# Altium footprint library PCB1.PcbLib: 8 footprints
Each footprint in its own frame and in the unit in brackets; x right, y up, seen from the top. Pads: shape width x height; smd on the part's side, far side on the other; paste and mask are expansions set on the pad; w line width, h text height; cw(c..) or ccw(c..) is an arc to the next point about the centre after c.
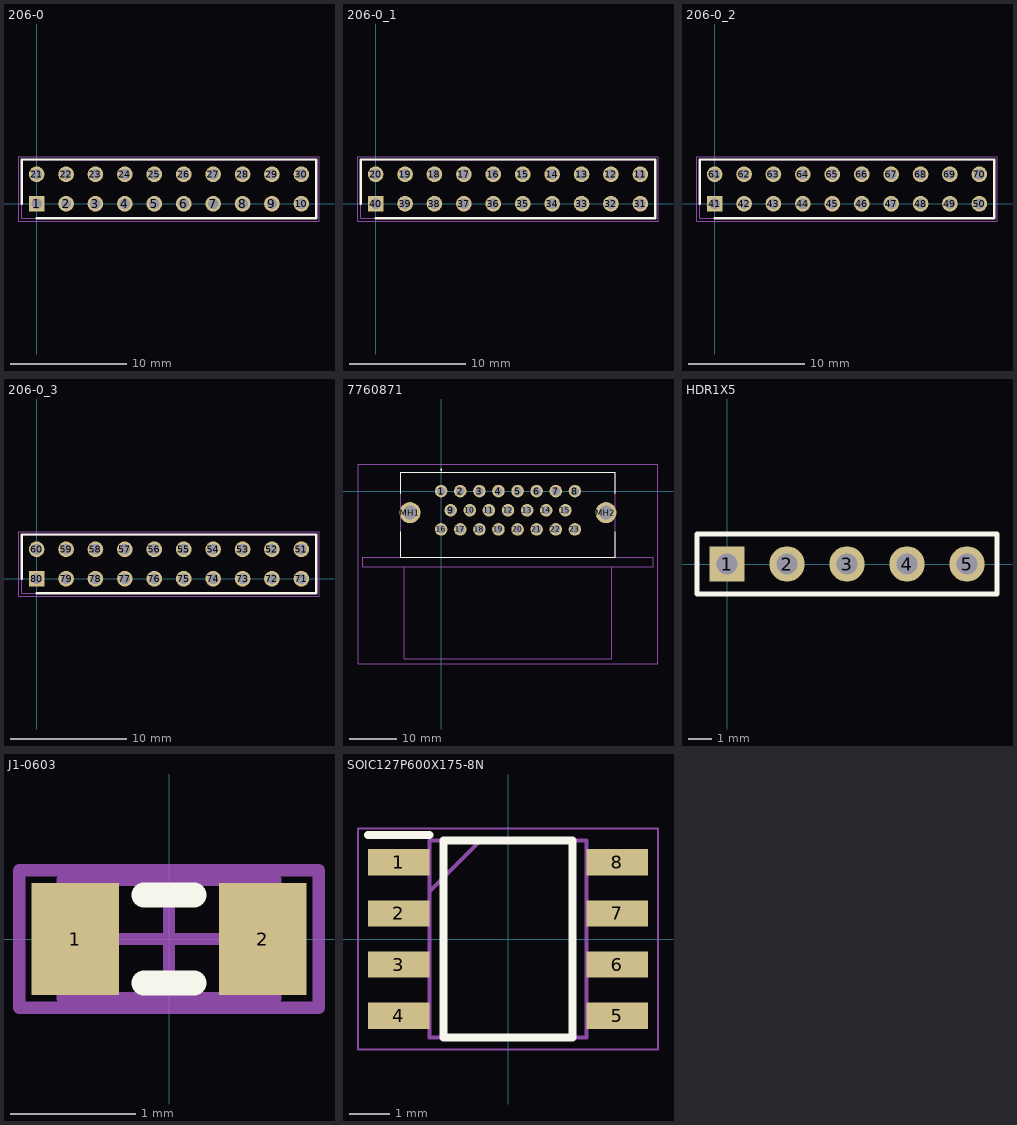
[diagram p0: the footprints below, top view; thin cyan lines are the x and y axes]

## 206-0 [mm]
pads (20):
  rect 1.35x1.35 hole 0.9: 1(0,0)
  round 1.35 hole 0.9: 2(2.54,0) 3(5.08,0) 4(7.62,0) 5(10.16,0) 6(12.7,0) 7(15.24,0) 8(17.78,0) 9(20.32,0) 10(22.86,0) 21(0,2.54) 22(2.54,2.54) 23(5.08,2.54) 24(7.62,2.54) 25(10.16,2.54) 26(12.7,2.54) 27(15.24,2.54) 28(17.78,2.54) 29(20.32,2.54) 30(22.86,2.54)
Top Overlay:
  lines w0.2: -1.27,0 -1.27,3.81 24.13,3.81 24.13,-1.245 0,-1.245
Mechanical 13:
  lines w0.1: -1.27,-1.245 24.13,-1.245 24.13,3.785 -1.27,3.785 -1.27,-1.245
Mechanical 15:
  lines w0.05: -1.52,-1.495 24.38,-1.495 24.38,4.035 -1.52,4.035 -1.52,-1.495
3D body "Pin Header 2x10 TH Pitch 2.54mm.stp": height 9.5, standoff -3.2, extent -1.27,-1.27 24.13,3.81

## 206-0_1 [mm]
pads (20):
  round 1.35 hole 0.9: 11(22.86,2.54) 12(20.32,2.54) 13(17.78,2.54) 14(15.24,2.54) 15(12.7,2.54) 16(10.16,2.54) 17(7.62,2.54) 18(5.08,2.54) 19(2.54,2.54) 20(0,2.54) 31(22.86,0) 32(20.32,0) 33(17.78,0) 34(15.24,0) 35(12.7,0) 36(10.16,0) 37(7.62,0) 38(5.08,0) 39(2.54,0)
  rect 1.35x1.35 hole 0.9: 40(0,0)
Top Overlay:
  lines w0.2: -1.27,0 -1.27,3.81 24.13,3.81 24.13,-1.245 0,-1.245
Mechanical 13:
  lines w0.1: -1.27,-1.245 -1.27,3.785 24.13,3.785 24.13,-1.245 -1.27,-1.245
Mechanical 15:
  lines w0.05: -1.52,-1.495 -1.52,4.035 24.38,4.035 24.38,-1.495 -1.52,-1.495
3D body "Pin Header 2x10 TH Pitch 2.54mm.stp": height 9.5, standoff -3.2, extent -1.27,-1.27 24.13,3.81

## 206-0_2 [mm]
pads (20):
  rect 1.35x1.35 hole 0.9: 41(0,0)
  round 1.35 hole 0.9: 42(2.54,0) 43(5.08,0) 44(7.62,0) 45(10.16,0) 46(12.7,0) 47(15.24,0) 48(17.78,0) 49(20.32,0) 50(22.86,0) 61(0,2.54) 62(2.54,2.54) 63(5.08,2.54) 64(7.62,2.54) 65(10.16,2.54) 66(12.7,2.54) 67(15.24,2.54) 68(17.78,2.54) 69(20.32,2.54) 70(22.86,2.54)
Top Overlay:
  lines w0.2: -1.27,0 -1.27,3.81 24.13,3.81 24.13,-1.245 0,-1.245
Mechanical 13:
  lines w0.1: -1.27,-1.245 -1.27,3.785 24.13,3.785 24.13,-1.245 -1.27,-1.245
Mechanical 15:
  lines w0.05: -1.52,-1.495 -1.52,4.035 24.38,4.035 24.38,-1.495 -1.52,-1.495
3D body "Pin Header 2x10 TH Pitch 2.54mm.stp": height 9.55, standoff -3.15, extent -1.27,-1.27 24.13,3.81

## 206-0_3 [mm]
pads (20):
  round 1.35 hole 0.9: 51(22.86,2.54) 52(20.32,2.54) 53(17.78,2.54) 54(15.24,2.54) 55(12.7,2.54) 56(10.16,2.54) 57(7.62,2.54) 58(5.08,2.54) 59(2.54,2.54) 60(0,2.54) 71(22.86,0) 72(20.32,0) 73(17.78,0) 74(15.24,0) 75(12.7,0) 76(10.16,0) 77(7.62,0) 78(5.08,0) 79(2.54,0)
  rect 1.35x1.35 hole 0.9: 80(0,0)
Top Overlay:
  lines w0.2: -1.27,0 -1.27,3.81 24.13,3.81 24.13,-1.245 0,-1.245
Mechanical 13:
  lines w0.1: -1.27,-1.245 24.13,-1.245 24.13,3.785 -1.27,3.785 -1.27,-1.245
Mechanical 15:
  lines w0.05: -1.52,-1.495 24.38,-1.495 24.38,4.035 -1.52,4.035 -1.52,-1.495
3D body "Pin Header 2x10 TH Pitch 2.54mm.stp": height 9.5, standoff -3.2, extent -1.27,-1.27 24.13,3.81

## 7760871 [mm]
pads (25):
  round 2.625 hole 1.75: 1(0,0) 2(4,0) 3(8,0) 4(12,0) 5(16,0) 6(20,0) 7(24,0) 8(28,0) 9(2,-4) 10(6,-4) 11(10,-4) 12(14,-4) 13(18,-4) 14(22,-4) 15(26,-4) 16(0,-8) 17(4,-8) 18(8,-8) 19(12,-8) 20(16,-8) 21(20,-8) 22(24,-8) 23(28,-8)
  round 4.395 hole 2.93: MH1(-6.5,-4.5) MH2(34.5,-4.5)
Top Overlay:
  lines w0.1: -8.5,-8.5 -8.5,-13.8 36.5,-13.8 36.5,-8.5 ; -8.5,-0.5 -8.5,4 36.5,4 36.5,-0.5
  lines w0.2: -0.1,4.5 cw(c0,4.5) 0.1,4.5 cw(c0,4.5) -0.1,4.5
Mechanical 13:
  lines w0.2: -7.7,-15.8 -7.7,-35.1 35.7,-35.1 35.7,-15.8 ; -8.5,-13.8 36.5,-13.8 ; -8.5,-13.8 -8.5,4 36.5,4 36.5,-13.8 ; -8.5,-13.8 -16.4,-13.8 -16.4,-15.8 44.4,-15.8 44.4,-13.8 36.5,-13.8
Mechanical 15:
  lines w0.1: -17.4,-36.1 45.4,-36.1 45.4,5.6 -17.4,5.6 -17.4,-36.1
3D body "776087-1.stp": height 27.99, standoff -4.11, extent -16.43,-35.768 44.37,2.032

## HDR1X5 [mm] "Connector; Header; 5 Position"
pads (5):
  rect 1.5x1.5 hole 0.9: 1(0,0)
  round 1.5 hole 0.9: 2(2.54,0) 3(5.08,0) 4(7.62,0) 5(10.16,0)
Top Overlay:
  lines w0.2: -1.27,-1.27 -1.27,1.27 11.43,1.27 11.43,-1.27 -1.27,-1.27
3D body "Pin Header 1x5 TH Pitch 2.54mm.stp": height 9.5, standoff -3.2, extent -1.27,-1.27 11.43,1.27

## J1-0603 [mm] "Chip Resistor, Body 1.6x0.8mm, IPC High Density"
height 0.9
pads (2):
  rect 0.7x0.9 smd: 1(-0.75,0) 2(0.75,0)
Top Overlay:
  lines w0.2: -0.2,-0.35 0.2,-0.35 ; -0.2,0.35 0.2,0.35
Mechanical 13:
  lines w0.1: -0.85,-0.475 0.85,-0.475 0.85,0.475 -0.85,0.475 -0.85,-0.475
Mechanical 15:
  lines w0.1: -0.475,0 0.475,0 ; 0,-0.475 0,0.475 ; -1.2,-0.55 1.2,-0.55 1.2,0.55 -1.2,0.55 -1.2,-0.55
3D body: height 0.9, standoff 0, extent -0.85,-0.475 0.85,0.475

## SOIC127P600X175-8N [mm]
pads (8):
  rect 1.525x0.65 smd: 1(-2.712,1.905) 2(-2.712,0.635) 3(-2.712,-0.635) 4(-2.712,-1.905) 5(2.712,-1.905) 6(2.712,-0.635) 7(2.712,0.635) 8(2.712,1.905)
Top Overlay:
  lines w0.2: -3.475,2.58 -1.95,2.58 ; -1.6,-2.45 -1.6,2.45 1.6,2.45 1.6,-2.45 -1.6,-2.45
Mechanical 13:
  lines w0.1: -1.95,1.18 -0.68,2.45 ; -1.95,-2.45 -1.95,2.45 1.95,2.45 1.95,-2.45 -1.95,-2.45
Mechanical 15:
  lines w0.05: -3.725,-2.75 -3.725,2.75 3.725,2.75 3.725,-2.75 -3.725,-2.75
3D body "NE555DR.stp": height 1.75, standoff 0, extent -3,-2.45 3,2.45